# Altium footprint library TSOP65P640X110-20N.PcbLib: 1 footprints
Each footprint in its own frame and in the unit in brackets; x right, y up, seen from the top. Pads: shape width x height; smd on the part's side, far side on the other; paste and mask are expansions set on the pad; w line width, h text height; cw(c..) or ccw(c..) is an arc to the next point about the centre after c.
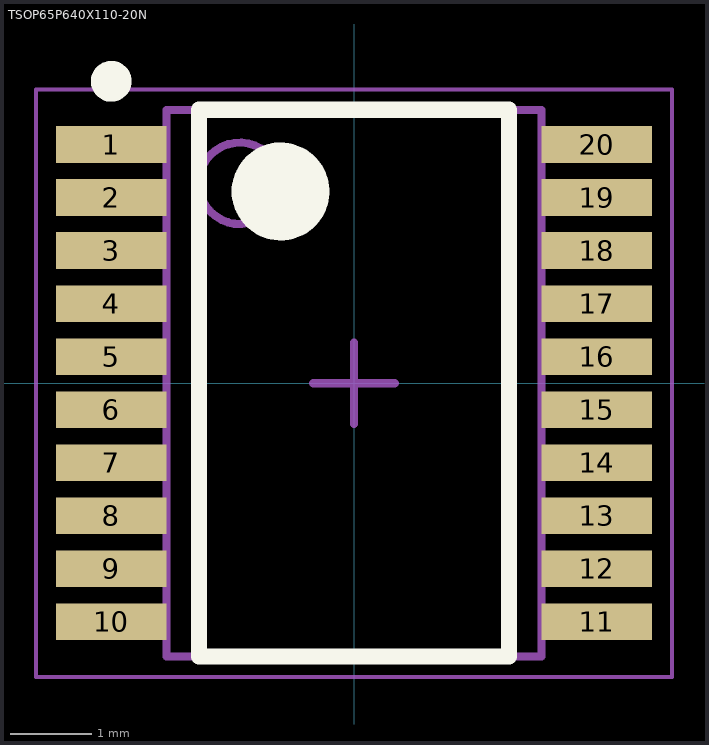
[diagram p0: the footprint, top view; thin cyan lines are the x and y axes]

## TSOP65P640X110-20N [mm] "TSOP, 20-Leads, Body 6.50x4.40mm, Pitch 0.65mm, IPC Medium Density"
height 1.1
pads (20):
  rect 1.35x0.45 smd: 1(-2.975,2.925) 2(-2.975,2.275) 3(-2.975,1.625) 4(-2.975,0.975) 5(-2.975,0.325) 6(-2.975,-0.325) 7(-2.975,-0.975) 8(-2.975,-1.625) 9(-2.975,-2.275) 10(-2.975,-2.925) 11(2.975,-2.925) 12(2.975,-2.275) 13(2.975,-1.625) 14(2.975,-0.975) 15(2.975,-0.325) 16(2.975,0.325) 17(2.975,0.975) 18(2.975,1.625) 19(2.975,2.275) 20(2.975,2.925)
Top Overlay:
  circle w0.6: c-0.9,2.35 r0.3
  circle w0.25: c-2.975,3.7 r0.125
  lines w0.2: -1.9,-3.35 -1.9,3.35 1.9,3.35 1.9,-3.35 -1.9,-3.35
Mechanical 13:
  circle w0.1: c-1.4,2.45 r0.5
  lines w0.1: -2.3,-3.35 2.3,-3.35 2.3,3.35 -2.3,3.35 -2.3,-3.35
Mechanical 15:
  lines w0.05: -3.9,-3.6 3.9,-3.6 3.9,3.6 -3.9,3.6 -3.9,-3.6
  lines w0.1: -0.5,0 0.5,0 ; 0,-0.5 0,0.5
3D body: height 1.1, standoff 0.1, extent -2.3,-3.35 2.3,3.35